# EAGLE library part PINHD-2X8-DIP (library SquantorConnectors)
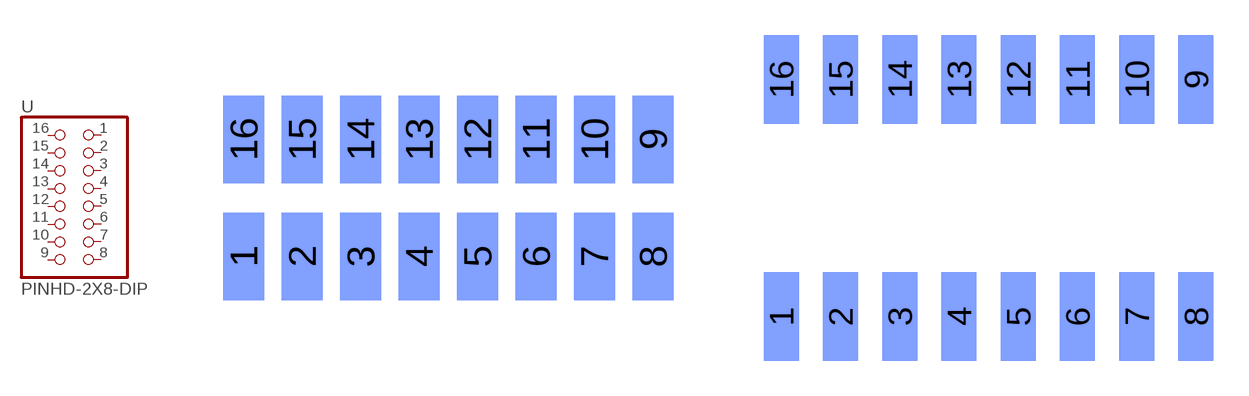
[diagram p50: symbol with the pads of 2X08_IC_PINS_IN; footprints 2X08_IC_PINS_IN, 2X08_IC_PINS_OUT]

Designator prefix -

## PINHD-2X8-DIPSMD_DIP_IN  [2X08_IC_PINS_IN]
1  16  pas
2  15  pas
3  14  pas
4  13  pas
5  12  pas
6  11  pas
7  10  pas
8  9  pas
9  8  pas
10  7  pas
11  6  pas
12  5  pas
13  4  pas
14  3  pas
15  2  pas
16  1  pas

## PINHD-2X8-DIPSMD_DIP_OUT  [2X08_IC_PINS_OUT]
1  1  pas
2  2  pas
3  3  pas
4  4  pas
5  5  pas
6  6  pas
7  7  pas
8  8  pas
9  9  pas
10  10  pas
11  11  pas
12  12  pas
13  13  pas
14  14  pas
15  15  pas
16  16  pas

## Footprint 2X08_IC_PINS_IN (pad centres in mm)
smd 1.8 x 3.8 bottom: 1 -8.89,-2.54; 2 -6.35,-2.54; 3 -3.81,-2.54; 4 -1.27,-2.54; 5 1.27,-2.54; 6 3.81,-2.54; 7 6.35,-2.54; 8 8.89,-2.54; 9 8.89,2.54; 10 6.35,2.54; 11 3.81,2.54; 12 1.27,2.54; 13 -1.27,2.54; 14 -3.81,2.54; 15 -6.35,2.54; 16 -8.89,2.54

## Footprint 2X08_IC_PINS_OUT (pad centres in mm)
smd 1.5 x 3.8 bottom: 1 -8.89,-5.08; 2 -6.35,-5.08; 3 -3.81,-5.08; 4 -1.27,-5.08; 5 1.27,-5.08; 6 3.81,-5.08; 7 6.35,-5.08; 8 8.89,-5.08; 9 8.89,5.08; 10 6.35,5.08; 11 3.81,5.08; 12 1.27,5.08; 13 -1.27,5.08; 14 -3.81,5.08; 15 -6.35,5.08; 16 -8.89,5.08